# Altium schematic symbol library osram-opto.SchLib: 2 symbols
Pins are listed as number, name and electrical type; pins without a type are passive.

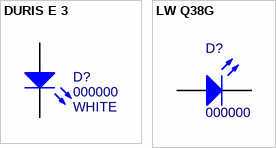
[diagram p0: symbols DURIS E 3 to LW Q38G]

## DURIS E 3
designator D?, comment 000000  value WHITE
LED DURIS E3 LOW PWR WHITE PLCC; ExtraInfo: BRBT-5C8E-1; MF PN: LUW JNSH.EC-BRBT-5C8E-1; Package: SMT; PN: 000000
footprint DURIS-E-3 (3.00mm X 1.40mm)
simulation model LCWJNSHEC (This spice model was created using the Altium Spice Model Wizard)
pins: 1 A, 2 K

## LW Q38G
designator D?, comment 000000
LED 5mA SMD 0603; Value: LW Q38G; ExtraInfo: LW Q38G-Q1S1-3K6L-1; PN: 000000; Package: 0603
footprint LED0603M (Chip LED 0603 - Medium Density)
simulation model LWQ38G (This spice model was created using the Altium Spice Model Wizard)
pins: 1 A, 2 K